# EAGLE library part HEADER-1X08 (library Header and Connector)
Header - 1X08
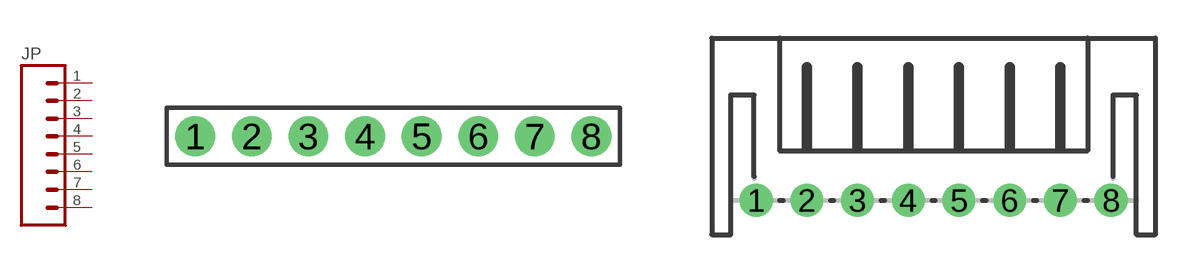
[diagram p3: symbol with the pads of HDR-F1X08; footprints HDR-F1X08, 2020-08H]

Designator prefix JP

## HEADER-1X08_(FEMALE) (CYTRON-PC: CN-PH-F140S; DESC: Female Header - 1x40 Ways; VALUE: 8/40 Ways)  [HDR-F1X08]
1  1  pas
2  2  pas
3  3  pas
4  4  pas
5  5  pas
6  6  pas
7  7  pas
8  8  pas

## HEADER-1X08_(2020) (CYTRON-PC: 2020-08H; DESC: 8 Ways - Pin Spacing 2mm; VALUE: 8 Ways)  [2020-08H]
Pads as for HDR-F1X08

## HEADER-1X08_(1R) (CYTRON-PC: HDR-F1X08-1R; VALUE: 8 Ways)  [HDR-F1X08-1R]
Pads as for HDR-F1X08

## HEADER-1X08_(SMD-FEMALE-TYPE1) (CYTRON-PC: S-CN-PH-F108S; DESC: S Straight Female Header 1x8 Ways; VALUE: 8 Ways)  [S-HDR-F1X08]
Pads as for HDR-F1X08

## HEADER-1X08_(MALE) (CYTRON-PC: CN-PH-M140S; DESC: Male Header - 1x40 Ways; VALUE: 8/40 Ways)  [HDR-M1X08]
Pads as for HDR-F1X08

## HEADER-1X08_(SMD-MALE-TYPE1) (CYTRON-PC: S-CN-PH-M140S; DESC: S Straight Male Header 1x40 Ways; VALUE: 8/40 Ways)  [S-HDR-M1X08]
Pads as for HDR-F1X08

## HEADER-1X08_(SMD-MALE-TYPE2) (CYTRON-PC: S-CN-PH-M140S; DESC: S Straight Male Header 1x40 Ways; VALUE: 8/40 Ways)  [S-HDR-M1X08-TYP2]
Pads as for HDR-F1X08

## HEADER-1X08_(MALE-NOSILK)  [HDR-M1X08-NOSILK]
Pads as for HDR-F1X08

## HEADER-1X08_(MALE-LONG)  [HDR-M1X08-LONG]
1  1  pas
1-1  1  pas
1-2  1  pas
2  2  pas
2-1  2  pas
2-2  2  pas
3  3  pas
3-1  3  pas
3-2  3  pas
4  4  pas
4-1  4  pas
4-2  4  pas
5  5  pas
5-1  5  pas
5-2  5  pas
6  6  pas
6-1  6  pas
6-2  6  pas
7  7  pas
7-1  7  pas
7-2  7  pas
8  8  pas
8-1  8  pas
8-2  8  pas

## Footprint HDR-F1X08 (pad centres in mm)
Female Header - 1X08
drill 1.016 pad 1.778: 1 0,0; 2 2.54,0; 3 5.08,0; 4 7.62,0; 5 10.16,0; 6 12.7,0; 7 15.24,0; 8 17.78,0

## Footprint 2020-08H (pad centres in mm)
2020-07H Pin spacing: 2mm
drill 0.8: 1 0,0; 2 2,0; 3 4,0; 4 6,0; 5 8,0; 6 10,0; 7 12,0; 8 14,0

## Footprint HDR-F1X08-1R (pad centres in mm)
drill 1.016 pad 1.778: 1 0,2.54; 2 2.54,-2.54; 3 5.08,2.54; 4 7.62,-2.54; 5 10.16,2.54; 6 12.7,-2.54; 7 15.24,2.54; 8 17.78,-2.54

## Footprint S-HDR-F1X08 (pad centres in mm)
SMD Male Header - 1X08
smd 1 x 2: 1 -8.89,-1.7; 2 -6.35,1.7; 3 -3.81,-1.7; 4 -1.27,1.7; 5 1.27,-1.7; 6 3.81,1.7; 7 6.35,-1.7; 8 8.89,1.7

## Footprint HDR-M1X08 (pad centres in mm)
Male Header - 1x08
drill 1.016 pad 1.778: 1 0,0; 2 2.54,0; 3 5.08,0; 4 7.62,0; 5 10.16,0; 6 12.7,0; 7 15.24,0; 8 17.78,0

## Footprint S-HDR-M1X08 (pad centres in mm)
SMD Male Header 1x08 Created by: Wai Weng
smd 1 x 2: 1 0,-1.7; 2 2.54,1.7; 3 5.08,-1.7; 4 7.62,1.7; 5 10.16,-1.7; 6 12.7,1.7; 7 15.24,-1.7; 8 17.78,1.7

## Footprint S-HDR-M1X08-TYP2 (pad centres in mm)
SMD Male Header 1x08 Type 2 Created by: Wai Weng
smd 1 x 2: 1 0,1.7; 2 2.54,-1.7; 3 5.08,1.7; 4 7.62,-1.7; 5 10.16,1.7; 6 12.7,-1.7; 7 15.24,1.7; 8 17.78,-1.7

## Footprint HDR-M1X08-NOSILK (pad centres in mm)
Male Header - 1x08 Without overlay
drill 1.016 pad 1.778: 1 0,0; 2 2.54,0; 3 5.08,0; 4 7.62,0; 5 10.16,0; 6 12.7,0; 7 15.24,0; 8 17.78,0

## Footprint HDR-M1X08-LONG (pad centres in mm)
drill 1.016 pad 1.778 long: 1 0,0; 2 2.54,0; 3 5.08,0; 4 7.62,0; 5 10.16,0; 6 12.7,0; 7 15.24,0; 8 17.78,0
drill 0.5: 1-1 0,-1.143; 1-2 0,1.143; 2-1 2.54,-1.143; 2-2 2.54,1.143; 3-1 5.08,-1.143; 3-2 5.08,1.143; 4-1 7.62,-1.143; 4-2 7.62,1.143; 5-1 10.16,-1.143; 5-2 10.16,1.143; 6-1 12.7,-1.143; 6-2 12.7,1.143; 7-1 15.24,-1.143; 7-2 15.24,1.143; 8-1 17.78,-1.143; 8-2 17.78,1.143